# EAGLE library part STECKER_WANNE_6 (library robo_ag)
Wannenstecker Reichelt:WSL 6G 2x3 THT
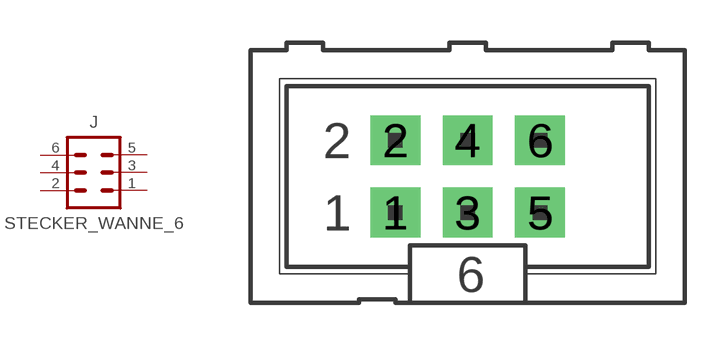
[diagram p3: symbol with the pads of STECKER_WANNE_6; footprint STECKER_WANNE_6]

Designator prefix J

## STECKER_WANNE_6  [STECKER_WANNE_6]
1  1  pas
2  2  pas
3  3  pas
4  4  pas
5  5  pas
6  6  pas

## Footprint STECKER_WANNE_6 (pad centres in mm)
Wannenstecker [reichelt.de] "WSL 6G"
drill 1 pad 1.75 square: 1 -2.54,-1.27; 2 -2.54,1.27; 3 0,-1.27; 4 0,1.27; 5 2.54,-1.27; 6 2.54,1.27